# Altium schematic symbol library Klotz.SchLib: 11 symbols
Pins are listed as number, name and electrical type; pins without a type are passive.

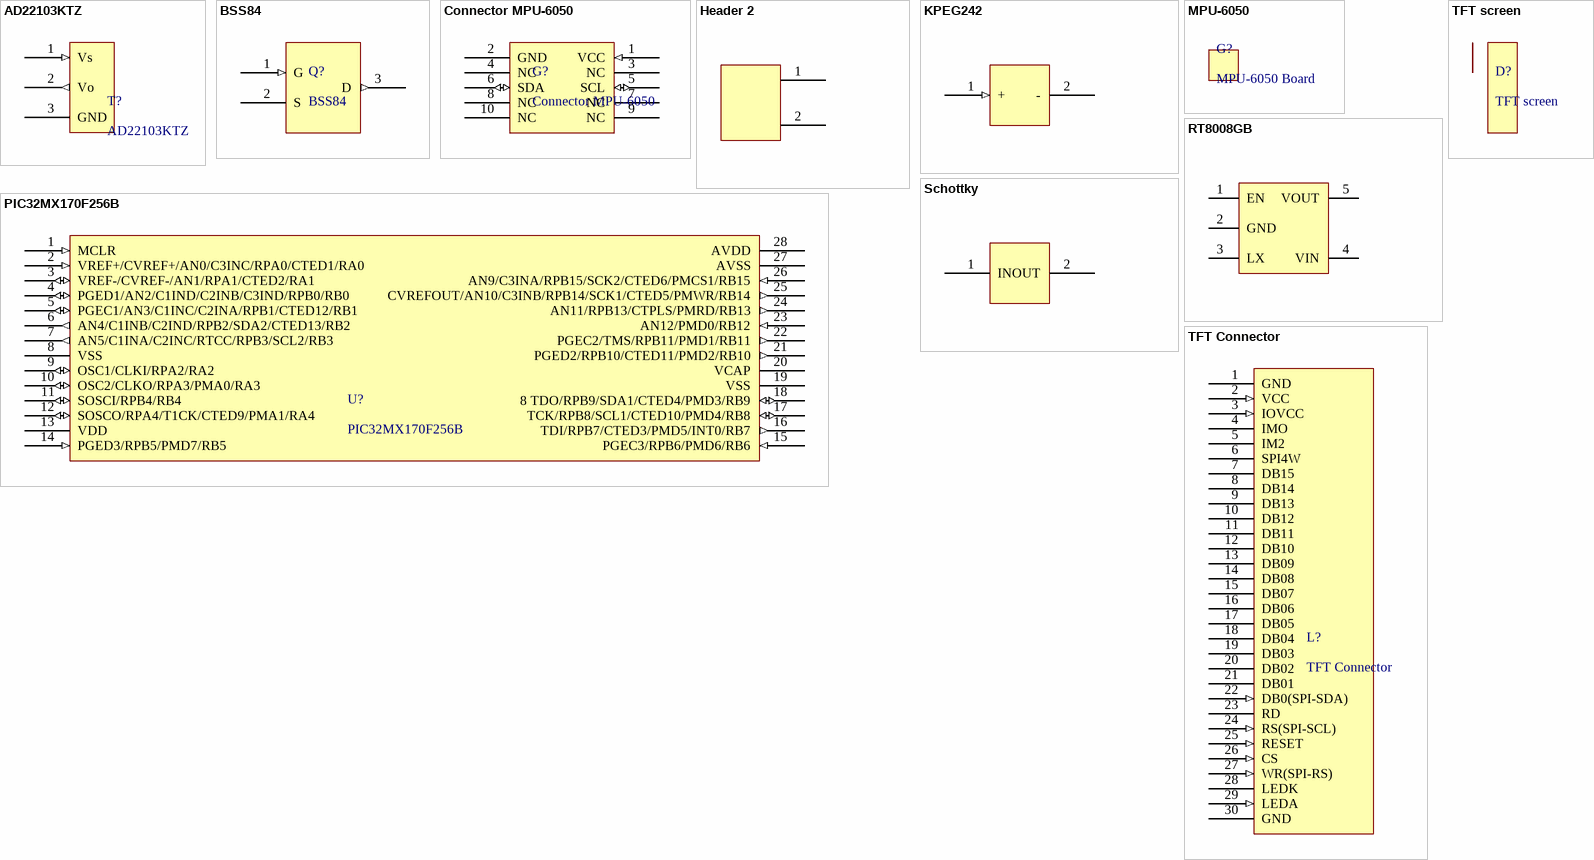
[diagram p0: symbols AD22103KTZ to TFT screen]

## AD22103KTZ
designator T?
Temp sensor; Fabricant: Analog Devices; Fournisseur: Farnell; Ref. Fournisseur: 1438415; Ref. Fabricant: AD22103KTZ
footprint TEMP (Connecteur)
pins: 1 Vs (in), 2 Vo (out), 3 GND (power)

## BSS84
designator Q?
Transistor; Fabricant: DIODES INC.; Ref. Fabricant: BSS84-7-F; Fournisseur: Farnell; Ref. Fournisseur: 1843716
footprint TRANSISTOR (BSS84)
pins: 1 G (in), 2 S (power), 3 D (out)

## Connector MPU-6050
designator G?
Fabricant: WURTH ELEKTRONIK; Fournisseur: Farnell; Ref. Fabricant: 61301021021; Ref. Fournisseur: 1841231
footprint GYROSCOPE (Connecteur gyroscope)
pins: 1 VCC (in), 2 GND, 3 NC, 4 NC, 5 SCL (io), 6 SDA (io), 7 NC, 8 NC, 9 NC, 10 NC

## Header 2
designator J?
Fabricant: MULTICOMP; Ref. Fabricant: 2211S-02G; Fournisseur: Farnell; Ref. Fournisseur: 1593411
footprint Header 2 pins (Connecteur)
pins: 1 (power), 2 (power)
1 alternate drawing of the same symbol

## KPEG242
designator B?
Buzzer; Fabricant: KINGSTATE; Fournisseur: Farnell; Ref. Fournisseur: 1502726; Ref. Fabricant: KPEG242
footprint BUZZER (Buzzer)
pins: 1 + (in), 2 - (power)
1 alternate drawing of the same symbol

## MPU-6050
designator G?, comment MPU-6050 Board  (mechanical)
Fabricant: InvenSense; Fournisseur: Olimex; Ref. Fournisseur: MOD-MPU6050; Ref. Fabricant: MPU-6050

## PIC32MX170F256B
designator U?
PIC32; Fabricant: MICROCHIP; Ref. Fabricant: PIC32MX170F256B-I/SO; Fournisseur: Farnell; Ref. Fournisseur: 2449077
footprint PIC32 (PIC32MX170F256B)
pins: 1 MCLR (in), 2 VREF+/CVREF+/AN0/C3INC/RPA0/CTED1/RA0 (in), 3 VREF-/CVREF-/AN1/RPA1/CTED2/RA1 (io), 4 PGED1/AN2/C1IND/C2INB/C3IND/RPB0/RB0 (io), 5 PGEC1/AN3/C1INC/C2INA/RPB1/CTED12/RB1 (io), 6 AN4/C1INB/C2IND/RPB2/SDA2/CTED13/RB2 (out), 7 AN5/C1INA/C2INC/RTCC/RPB3/SCL2/RB3 (out), 8 VSS (power), 9 OSC1/CLKI/RPA2/RA2 (io), 10 OSC2/CLKO/RPA3/PMA0/RA3 (io), 11 SOSCI/RPB4/RB4 (io), 12 SOSCO/RPA4/T1CK/CTED9/PMA1/RA4 (io), 13 VDD (power), 14 PGED3/RPB5/PMD7/RB5 (in), 15 PGEC3/RPB6/PMD6/RB6 (in), 16 TDI/RPB7/CTED3/PMD5/INT0/RB7 (out), 17 TCK/RPB8/SCL1/CTED10/PMD4/RB8 (io), 18 8 TDO/RPB9/SDA1/CTED4/PMD3/RB9 (io), 19 VSS (power), 20 VCAP (power), 21 PGED2/RPB10/CTED11/PMD2/RB10 (out), 22 PGEC2/TMS/RPB11/PMD1/RB11 (out), 23 AN12/PMD0/RB12 (in), 24 AN11/RPB13/CTPLS/PMRD/RB13 (out), 25 CVREFOUT/AN10/C3INB/RPB14/SCK1/CTED5/PMWR/RB14 (out), 26 AN9/C3INA/RPB15/SCK2/CTED6/PMCS1/RB15 (in), 27 AVSS (power), 28 AVDD (power)

## RT8008GB
designator U?
Voltage Regulator; Fabricant: RICHTEK; Fournisseur: Farnell; Ref. Fournisseur: 2362964; Ref. Fabricant: RT8008GB
footprint REGULATEUR (RT8008)
pins: 1 EN (power), 2 GND (power), 3 LX (power), 4 VIN (power), 5 VOUT (power)
1 alternate drawing of the same symbol

## Schottky
designator G?, comment STPS1L30U  (value not drawn)
Diode Schottky; Fabricant: STMICROELECTRONICS; Fournisseur: Farnell; RefFournisseur: 1467550; RefFabricant: STPS1L30U
footprint Schottky (Diode de redressement)
pins: 1 IN (power), 2 OUT (power)
1 alternate drawing of the same symbol

## TFT Connector
designator L?
Fabricant: OMRON ELECTRONIC COMPONENTS; Ref. Fabricant: XF2M30151A; Fournisseur: Farnell; Ref. Fournisseur: 1112560
footprint SCREEN
pins: 1 GND (power), 2 VCC (in), 3 IOVCC (in), 4 IMO (power), 5 IM2 (power), 6 SPI4W (power), 7 DB15 (power), 8 DB14 (power), 9 DB13 (power), 10 DB12 (power), 11 DB11 (power), 12 DB10 (power), 13 DB09 (power), 14 DB08 (power), 15 DB07 (power), 16 DB06 (power), 17 DB05 (power), 18 DB04 (power), 19 DB03 (power), 20 DB02 (power), 21 DB01 (power), 22 DB0(SPI-SDA) (in), 23 RD (power), 24 RS(SPI-SCL) (in), 25 RESET (in), 26 CS (in), 27 WR(SPI-RS) (in), 28 LEDK (power), 29 LEDA (in), 30 GND (power)

## TFT screen
designator D?  (mechanical)
Fabricant: MIDAS; Fournisseur: Farnell; Ref. Fabricant: MCT0144C6W128128PML; Ref. Fournisseur: 2606862